# EAGLE library part BSS84AKV,115 (library NXP_By_element14_Batch_1)
50 V, 170 mA dual P-channel Trench MOSFET
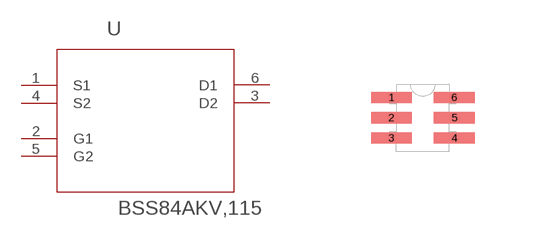
[diagram p236: symbol with the pads of SOT50P160X60-6N; footprint SOT50P160X60-6N]

Designator prefix U

## BSS84AKV,115 (MPN: BSS84AKV,115; OC_FARNELL: -; OC_NEWARK: 56T4757; P1I: o; PACKAGE: SOT-666-6; SUPPLIER: NXP Semiconductors)  [SOT50P160X60-6N]
1  S1  pas
2  G1  pas
3  D2  pas
4  S2  pas
5  G2  pas
6  D1  pas

## Footprint SOT50P160X60-6N (pad centres in mm)
smd 1.016 x 0.279: 1 -0.787,0.508; 2 -0.787,0; 3 -0.787,-0.508; 4 0.787,-0.508; 5 0.787,0; 6 0.787,0.508